# Altium footprint library WE-LPCC.PcbLib: 5 footprints
Each footprint in its own frame and in the unit in brackets; x right, y up, seen from the top. Pads: shape width x height; smd on the part's side, far side on the other; paste and mask are expansions set on the pad; w line width, h text height; cw(c..) or ccw(c..) is an arc to the next point about the centre after c.
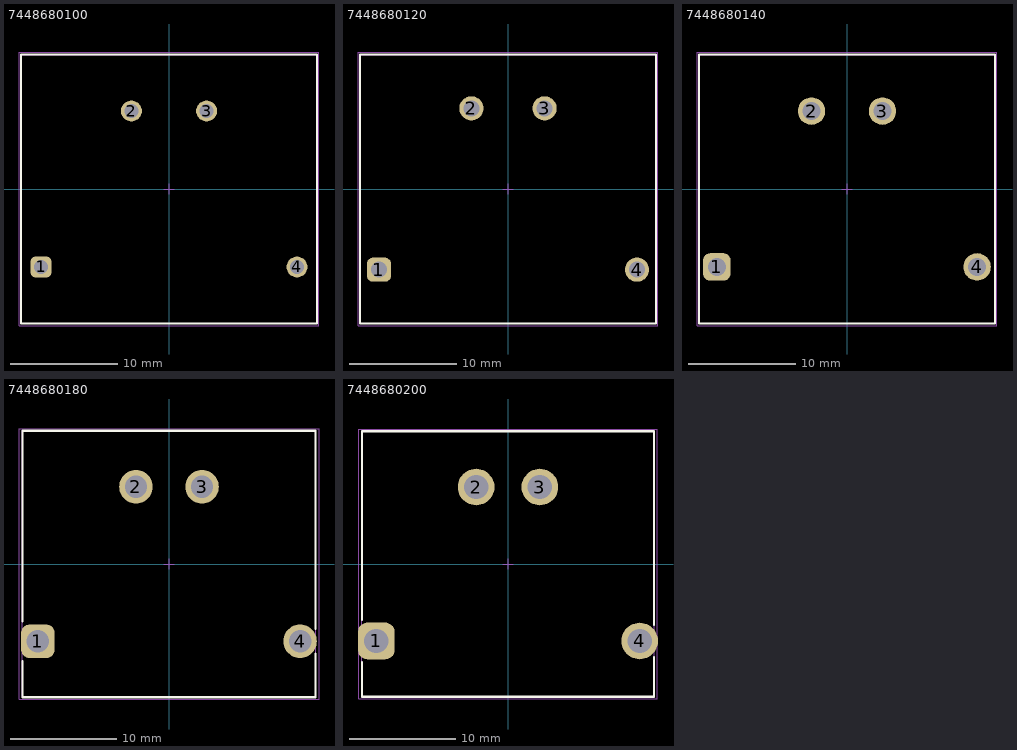
[diagram p0: the footprints below, top view; thin cyan lines are the x and y axes]

## 7448680100 [mm] "Common Mode Power Line Choke, 4-Leads, body 23.8x25mm"
height 9.7
pads (4):
  rrect50% 1.95x1.95 hole 1.3: 1(-11.9,-7.25)
  round 1.95 hole 1.3: 2(-3.5,7.25) 3(3.5,7.25) 4(11.9,-7.25)
Top Overlay:
  lines w0.2: -13.75,-12.5 -13.75,12.5 13.75,12.5 13.75,-12.5 -13.75,-12.5
Top Designator:
  text ".Designator" at -7.498,-0.5 h1.5
Top Component Outline:
  lines w0.1: -13.75,-12.5 -13.75,12.5 13.75,12.5 13.75,-12.5 -13.75,-12.5
Top 3D Body:
  lines w0.1: -13.75,-12.5 -13.75,12.5 13.75,12.5 13.75,-12.5 -13.75,-12.5
Top Courtyard:
  lines w0.05: -0.5,0 0.5,0 ; 0,-0.5 0,0.5 ; -13.95,-12.7 -13.95,12.7 13.95,12.7 13.95,-12.7 -13.95,-12.7
3D body "7448680100.stp": height 9.55, standoff -4.35, extent -12.401,-12.01 12.405,12

## 7448680120 [mm] "Common Mode Power Line Choke, 4-Leads, body 27.5x25mm"
height 10
pads (4):
  rrect50% 2.25x2.25 hole 1.5: 1(-12,-7.5)
  round 2.25 hole 1.5: 2(-3.4,7.5) 3(3.4,7.5) 4(12,-7.5)
Top Overlay:
  lines w0.2: -13.75,-12.5 13.75,-12.5 13.75,12.5 -13.75,12.5 -13.75,-12.5
Top Designator:
  text ".Designator" at -7.498,-0.5 h1.5
Top Component Outline:
  lines w0.1: -13.75,-12.5 13.75,-12.5 13.75,12.5 -13.75,12.5 -13.75,-12.5
Top 3D Body:
  lines w0.1: -13.75,-12.5 13.75,-12.5 13.75,12.5 -13.75,12.5 -13.75,-12.5
Top Courtyard:
  lines w0.05: -0.5,0 0.5,0 ; 0,-0.5 0,0.5 ; -13.95,-12.7 -13.95,12.7 13.95,12.7 13.95,-12.7 -13.95,-12.7
3D body "7448680120.stp": height 9.9, standoff -4.4, extent -12.6,-12.01 12.605,12

## 7448680140 [mm] "Common Mode Power Line Choke, 4-Leads, body 24.2x25mm"
height 10.4
pads (4):
  rrect50% 2.55x2.55 hole 1.7: 1(-12.1,-7.25)
  round 2.55 hole 1.7: 2(-3.3,7.25) 3(3.3,7.25) 4(12.1,-7.25)
Top Overlay:
  lines w0.2: -13.75,-12.5 -13.75,12.5 13.75,12.5 13.75,-12.5 -13.75,-12.5
Top Designator:
  text ".Designator" at -7.498,-0.5 h1.5
Top Component Outline:
  lines w0.1: -13.75,-12.5 -13.75,12.5 13.75,12.5 13.75,-12.5 -13.75,-12.5
Top 3D Body:
  lines w0.1: -13.75,-12.5 -13.75,12.5 13.75,12.5 13.75,-12.5 -13.75,-12.5
Top Courtyard:
  lines w0.05: -0.5,0 0.5,0 ; 0,-0.5 0,0.5 ; -13.95,-12.7 13.95,-12.7 13.95,12.7 -13.95,12.7 -13.95,-12.7
3D body "7448680140.stp": height 10.3, standoff -4.4, extent -12.8,-12.01 12.805,12

## 7448680180 [mm] "Common Mode Power Line Choke, 4-Leads, body 24.6x25mm"
height 11.3
pads (4):
  rrect50% 3.15x3.15 hole 2.1: 1(-12.3,-7.25)
  round 3.15 hole 2.1: 2(-3.1,7.25) 3(3.1,7.25) 4(12.3,-7.25)
Top Overlay:
  lines w0.2: -13.75,-9.1 -13.75,-12.5 13.75,-12.5 13.75,-8.4 ; -13.75,-5.4 -13.75,12.5 13.75,12.5 13.75,-6.1
Top Designator:
  text ".Designator" at -7.498,-0.5 h1.5
Top Component Outline:
  lines w0.1: -13.75,-12.5 -13.75,12.5 13.75,12.5 13.75,-12.5 -13.75,-12.5
Top 3D Body:
  lines w0.1: -13.75,-12.5 -13.75,12.5 13.75,12.5 13.75,-12.5 -13.75,-12.5
Top Courtyard:
  lines w0.05: -0.5,0 0.5,0 ; 0,-0.5 0,0.5 ; -14.075,-12.7 -14.075,12.7 14.075,12.7 14.075,-12.7 -14.075,-12.7
3D body "7448680180.stp": height 11.15, standoff -4.35, extent -13.2,-12.25 13.205,12.25

## 7448680200 [mm] "Common Mode Power Line Choke, 4-Leads, body 24.8x25mm"
height 11.7
pads (4):
  rrect50% 3.45x3.45 hole 2.3: 1(-12.4,-7.25)
  round 3.45 hole 2.3: 2(-3,7.25) 3(3,7.25) 4(12.4,-7.25)
Top Overlay:
  lines w0.2: -13.75,-9.25 -13.75,-12.5 13.75,-12.5 13.75,-8.75 ; -13.75,-5.25 -13.75,12.5 13.75,12.5 13.75,-5.75
Top Designator:
  text ".Designator" at -7.498,-0.5 h1.5
Top Component Outline:
  lines w0.1: -13.75,-12.5 13.75,-12.5 13.75,12.5 -13.75,12.5 -13.75,-12.5
Top 3D Body:
  lines w0.1: -13.75,-12.5 13.75,-12.5 13.75,12.5 -13.75,12.5 -13.75,-12.5
Top Courtyard:
  lines w0.05: -0.5,0 0.5,0 ; 0,-0.5 0,0.5 ; -14.075,-12.7 14.075,-12.7 14.075,12.7 -14.075,12.7 -14.075,-12.7
3D body "7448680200.stp": height 11.9, standoff -4, extent -13.399,-12.25 13.4,12.25